# Altium footprint library Bourns PEC11R-4xxxF-Sxxxx.PcbLib: 1 footprints
Each footprint in its own frame and in the unit in brackets; x right, y up, seen from the top. Pads: shape width x height; smd on the part's side, far side on the other; paste and mask are expansions set on the pad; w line width, h text height; cw(c..) or ccw(c..) is an arc to the next point about the centre after c.
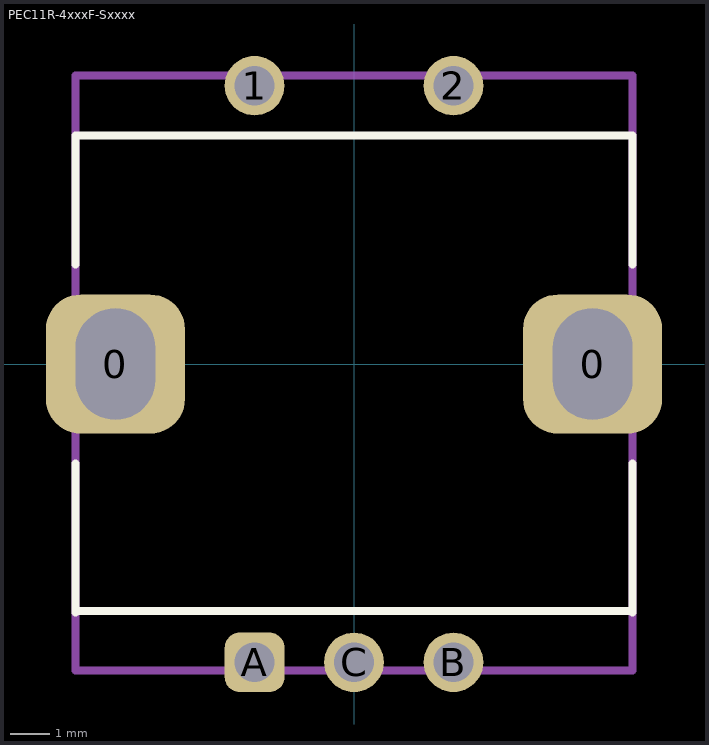
[diagram p0: the footprint, top view; thin cyan lines are the x and y axes]

## PEC11R-4xxxF-Sxxxx [mm] "12 mm Incremental Encoder"
height 21.5
pads (7):
  rrect50% 3.5x3.5 hole 2.8 slot 2 at 0 deg: 0(-6,0) 0(6,0)
  round 1.5 hole 1: 1(-2.5,7) 2(2.5,7) B(2.5,-7.5) C(0,-7.5)
  rrect50% 1.5x1.5 hole 1: A(-2.5,-7.5)
Top Overlay:
  lines w0.2: -7,-6.25 -7,-2.5 ; -7,-6.21 7,-6.21 ; -7,2.5 -7,5.75 7,5.75 7,2.5 ; 7,-6.25 7,-2.5
Top 3D Body:
  lines w0.2: -7,7.2 -7,-7.7 7,-7.7 7,7.25 -7,7.25
3D body "pec11r-4x15k-sxxxx.stp": height 21.6, standoff -3.6, extent -7,-7.7 7,7.2